# EAGLE library part M5STACKGRAY (library lbr_rin9147)
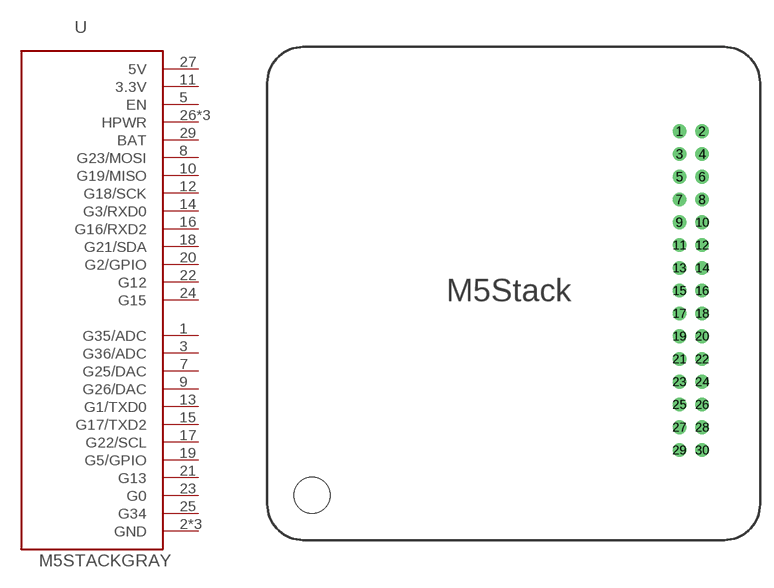
[diagram p7: symbol with the pads of M5STACK; footprint M5STACK]

Designator prefix -

## M5STACKGRAY  [M5STACK]
1  G35/ADC
2  GND  pas
3  G36/ADC
4  GND  pas
5  EN  in
6  GND  pas
7  G25/DAC
8  G23/MOSI
9  G26/DAC
10  G19/MISO
11  3.3V  pas
12  G18/SCK
13  G1/TXD0
14  G3/RXD0
15  G17/TXD2
16  G16/RXD2
17  G22/SCL
18  G21/SDA
19  G5/GPIO
20  G2/GPIO
21  G13
22  G12
23  G0
24  G15
25  G34
26  HPWR
27  5V  pas
28  HPWR
29  BAT
30  HPWR

## Footprint M5STACK (pad centres in mm)
drill 1.02: 1 0,0; 2 2.54,0; 3 0,-2.54; 4 2.54,-2.54; 5 0,-5.08; 6 2.54,-5.08; 7 0,-7.62; 8 2.54,-7.62; 9 0,-10.16; 10 2.54,-10.16; 11 0,-12.7; 12 2.54,-12.7; 13 0,-15.24; 14 2.54,-15.24; 15 0,-17.78; 16 2.54,-17.78; 17 0,-20.32; 18 2.54,-20.32; 19 0,-22.86; 20 2.54,-22.86; 21 0,-25.4; 22 2.54,-25.4; 23 0,-27.94; 24 2.54,-27.94; 25 0,-30.48; 26 2.54,-30.48; 27 0,-33.02; 28 2.54,-33.02; 29 0,-35.56; 30 2.54,-35.56
hole 4 at -41,-40.6